# EAGLE library part W01_WIPY_OEM (library W01_WiPy_OEM)
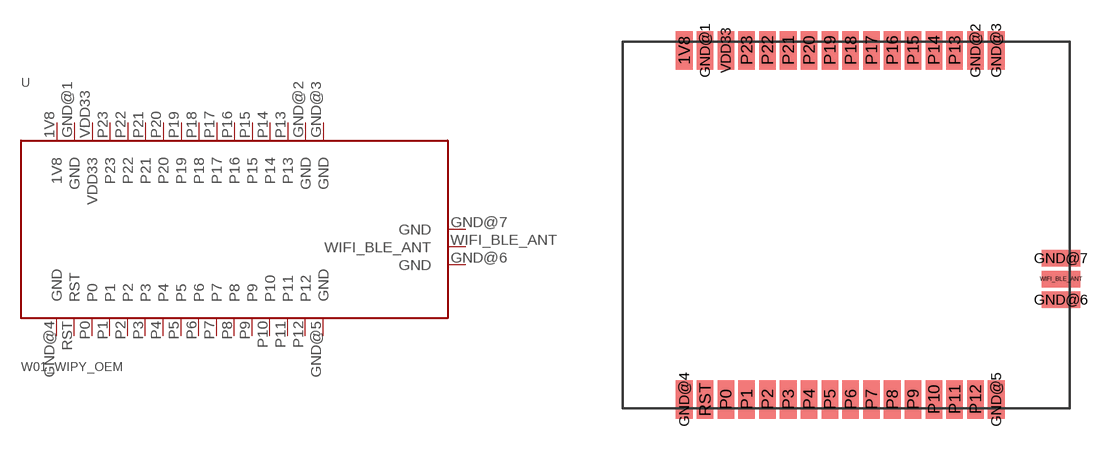
[diagram p0: symbol with the pads of W01_WIPY_OEM; footprint W01_WIPY_OEM]

Designator prefix -

## W01_WIPY_OEM  [W01_WIPY_OEM]
1V8  1V8
GND@1  GND
GND@2  GND
GND@3  GND
GND@4  GND
GND@5  GND
GND@6  GND
GND@7  GND
P0  P0
P1  P1
P2  P2
P3  P3
P4  P4
P5  P5
P6  P6
P7  P7
P8  P8
P9  P9
P10  P10
P11  P11
P12  P12
P13  P13
P14  P14
P15  P15
P16  P16
P17  P17
P18  P18
P19  P19
P20  P20
P21  P21
P22  P22
P23  P23
RST  RST
VDD33  VDD33
WIFI_BLE_ANT  WIFI_BLE_ANT

## Footprint W01_WIPY_OEM (pad centres in mm)
smd 0.8 x 1.85: 1V8 2.96,17.225; GND@1 3.96,17.225; GND@2 16.96,17.225; GND@3 17.96,17.225; GND@4 2.96,0.425; GND@5 17.96,0.425; P0 4.96,0.425; P1 5.96,0.425; P2 6.96,0.425; P3 7.96,0.425; P4 8.96,0.425; P5 9.96,0.425; P6 10.96,0.425; P7 11.96,0.425; P8 12.96,0.425; P9 13.96,0.425; P10 14.96,0.425; P11 15.96,0.425; P12 16.96,0.425; P13 15.96,17.225; P14 14.96,17.225; P15 13.96,17.225; P16 12.96,17.225; P17 11.96,17.225; P18 10.96,17.225; P19 9.96,17.225; P20 8.96,17.225; P21 7.96,17.225; P22 6.96,17.225; P23 5.96,17.225; RST 3.96,0.425; VDD33 4.96,17.225
smd 1.85 x 0.8: GND@6 21.075,5.22; GND@7 21.075,7.22; WIFI_BLE_ANT 21.075,6.22